# Altium footprint library UCC28180-V03.PcbLib: 49 footprints (part 4 of 4)
Each footprint in its own frame and in the unit in brackets; x right, y up, seen from the top. Pads: shape width x height; smd on the part's side, far side on the other; paste and mask are expansions set on the pad; w line width, h text height; cw(c..) or ccw(c..) is an arc to the next point about the centre after c.
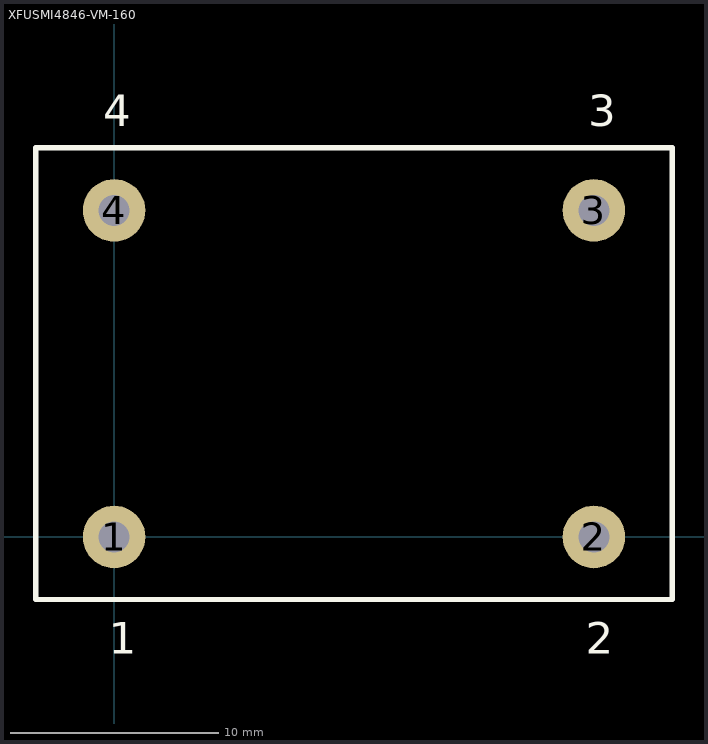
[diagram p3: the footprint, top view; thin cyan lines are the x and y axes]

## XFUSMI4846-VM-160 [mm] "Boost Inductor"
pads (4):
  round 3 hole 1.5: 1(0,0) 2(23,0) 3(23,15.65) 4(0,15.65)
Top Overlay:
  lines w0.254: -3.75,-3 26.75,-3 26.75,18.65 -3.75,18.65 -3.75,-3
  text "1" at -0.254,-5.588 h1.52
  text "2" at 22.606,-5.588 h1.52
  text "3" at 22.733,19.685 h1.52
  text "4" at -0.508,19.685 h1.52